# Altium footprint library LCD.PcbLib: 5 footprints
Each footprint in its own frame and in the unit in brackets; x right, y up, seen from the top. Pads: shape width x height; smd on the part's side, far side on the other; paste and mask are expansions set on the pad; w line width, h text height; cw(c..) or ccw(c..) is an arc to the next point about the centre after c.
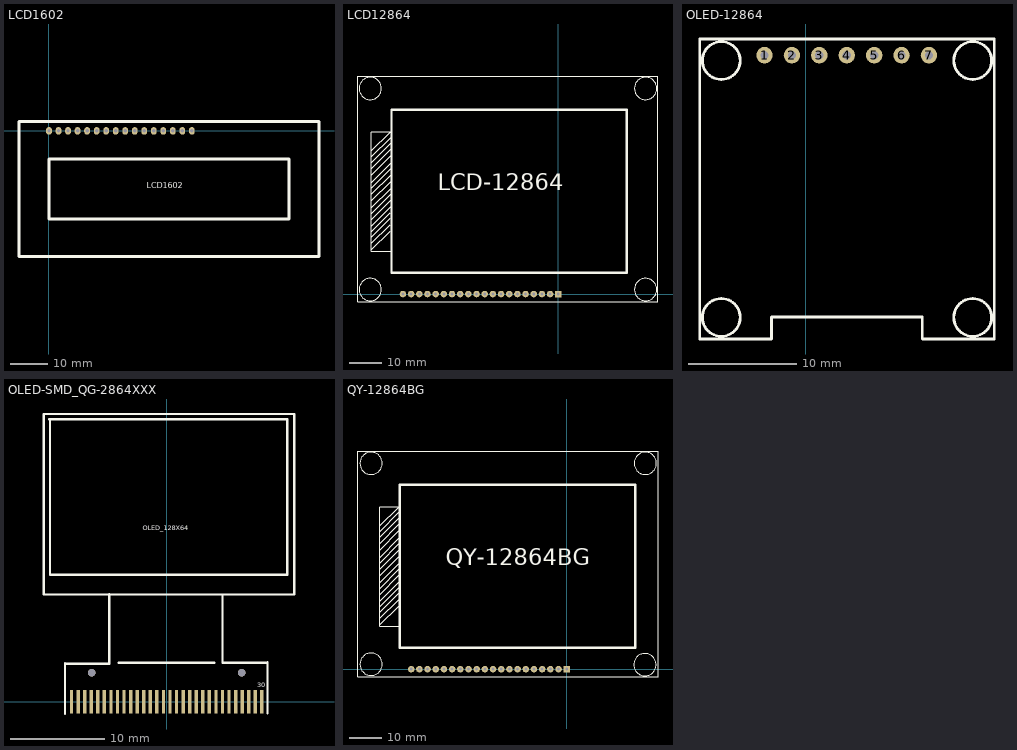
[diagram p0: the footprints below, top view; thin cyan lines are the x and y axes]

## LCD1602 [mil]
pads (16):
  oval 60x80 hole 35.43: 1(0,0) 2(100,0) 3(200,0) 4(300,0) 5(400,0) 6(500,0) 7(600,0) 8(700,0) 9(800,0) 10(900,0) 11(1000,0) 12(1100,0) 13(1200,0) 14(1300,0) 15(1400,0) 16(1500,0)
Top Overlay:
  lines w30: -314.96,-1318.9 -314.96,98.43 2834.65,98.43 2834.65,-1318.9 -314.96,-1318.9 ; 0,-925.2 0,-295.28 2519.69,-295.28 2519.69,-925.2 0,-925.2
  text "LCD1602" at 1025.04,-601.57 h60
3D body: height 414, standoff -106, extent -315,-1357.01 2854.29,80

## LCD12864 [mil]
pads (20):
  rect 80x80 hole 35.43: 1(0,0)
  round 80 hole 35.43: 2(-100,0) 3(-200,0) 4(-300,0) 5(-400,0) 6(-500,0) 7(-600,0) 8(-700,0) 9(-800,0) 10(-900,0) 11(-1000,0) 12(-1100,0) 13(-1200,0) 14(-1300,0) 15(-1400,0) 16(-1500,0) 17(-1600,0) 18(-1700,0) 19(-1800,0) 20(-1900,0)
Top Overlay:
  circle w10: c-2300,55 r136.47
  circle w10: c1067.93,55 r136.47
  circle w10: c1068.53,2515 r136.47
  circle w10: c-2300,2515 r136.47
  lines w10: -2285,540 -2055,770 ; -2285,620 -2055,850 ; -2285,695 -2055,925 ; -2285,765 -2055,995 ; -2285,1750 -2055,1980 ; -2280,835 -2050,1065 ; -2280,915 -2050,1145 ; -2280,990 -2050,1220 ; -2280,1060 -2050,1290 ; -2280,1145 -2050,1375 ; -2280,1225 -2050,1455 ; -2280,1300 -2050,1530 ; -2280,1370 -2050,1600 ; -2280,1460 -2050,1690 ; -2280,1540 -2050,1770 ; -2280,1615 -2050,1845 ; -2280,1685 -2050,1915 ; -2040,525 -2285,525 -2285,1980 -2280,1985 -2035,1985 ; -1850,-95 -2450,-95 ; -2450,-95 1220,-95 1220,2665 -2450,2665 -2450,-95
  lines w30: -2040,260 -2040,2255 835,2255 835,260 -2040,260
  text "LCD-12864" at -1475,1270 h200
3D body: height 374.02, standoff -314.96, extent -2440,-95.9 1221.42,2660

## OLED-12864 [mil]
pads (7):
  round 60 hole 30: 1(-150,1260) 2(-50,1260) 3(50,1260) 4(150,1260) 5(250,1260) 6(350,1260) 7(450,1260)
Top Overlay:
  circle w10: c-307.72,1240.31 r68.9
  circle w10: c-307.72,303.31 r68.9
  circle w10: c609.61,303.31 r68.9
  circle w10: c609.61,1240.31 r68.9
  lines w10: -386.46,224.57 -386.46,1319.06 688.35,1319.06 688.35,224.57 426.54,224.57 425.35,225.75 425.35,304.57 -124.65,304.57 -124.65,224.57 -386.46,224.57
3D body: height 24.42, standoff -126.58, extent -375.6,313.28 675.59,1187.95

## OLED-SMD_QG-2864XXX [mm]
pads (32):
  rect 0.351x2.499 smd: 1(-10.149,-0.002) 2(-9.444,0) 3(-8.744,0) 4(-8.044,0) 5(-7.344,0) 6(-6.644,0) 7(-5.944,0) 8(-5.244,0) 9(-4.544,0) 10(-3.844,0) 11(-3.144,0) 12(-2.444,0) 13(-1.744,0) 14(-1.044,0) 15(-0.344,0) 16(0.356,0) 17(1.056,0) 18(1.756,0) 19(2.456,0) 20(3.156,0) 21(3.856,0) 22(4.556,0) 23(5.256,0) 24(5.956,0) 25(6.656,0) 26(7.356,0) 27(8.056,0) 28(8.751,0.001) 29(9.45,0.002) 30(10.149,0.002)
  round 0.8 hole 0.8 unplated: ""(-8,3.1) ""(8,3.1)
Top Overlay:
  lines w0.254: -12.442,30.16 12.858,30.16 12.858,13.56 -12.442,13.56 -12.442,30.06 -12.542,30.16 -12.242,30.16 -11.842,30.16 ; -10.848,-1.302 -10.848,4.098 ; -10.842,4.06 -6.142,4.06 -6.142,11.46 ; -5.142,4.16 5.058,4.16 ; 5.958,11.36 5.958,4.16 10.758,4.16 ; 10.752,-1.202 10.752,4.198 ; -13.1,11.44 -13.1,30.7 13.6,30.7 13.6,11.44 -13.1,11.44
  text "30" at 9.666,1.561 h0.51
  text "OLED_128X64" at -2.541,18.313 h0.51

## QY-12864BG [mil]
pads (20):
  rect 80x80 hole 35.43: 1(0,0)
  round 80 hole 35.43: 2(-100,0) 3(-200,0) 4(-300,0) 5(-400,0) 6(-500,0) 7(-600,0) 8(-700,0) 9(-800,0) 10(-900,0) 11(-1000,0) 12(-1100,0) 13(-1200,0) 14(-1300,0) 15(-1400,0) 16(-1500,0) 17(-1600,0) 18(-1700,0) 19(-1800,0) 20(-1900,0)
Top Overlay:
  circle w10: c-2390,2515 r136.47
  circle w10: c960,2515 r136.47
  circle w10: c955,55 r136.47
  circle w10: c-2390,60 r136.47
  lines w10: -2450,-95 1115,-95 1115,2665 -2550,2665 -2550,-95 -1850,-95 ; -2285,540 -2055,770 ; -2285,620 -2055,850 ; -2285,695 -2055,925 ; -2285,765 -2055,995 ; -2285,1750 -2055,1980 ; -2280,835 -2050,1065 ; -2280,915 -2050,1145 ; -2280,990 -2050,1220 ; -2280,1060 -2050,1290 ; -2280,1145 -2050,1375 ; -2280,1225 -2050,1455 ; -2280,1300 -2050,1530 ; -2280,1370 -2050,1600 ; -2280,1460 -2050,1690 ; -2280,1540 -2050,1770 ; -2280,1615 -2050,1845 ; -2280,1685 -2050,1915 ; -2040,525 -2285,525 -2285,1980 -2280,1985 -2035,1985
  lines w30: -2040,260 835,260 835,2255 -2040,2255 -2040,260
  text "QY-12864BG" at -1475,1270 h200
3D body: height 417.32, standoff -118.11, extent -2550.7,-95 1110.71,2660.91